# Altium schematic symbol library MMCX-J-P-H-ST.SchLib: 1 symbol
Pins are listed as number, name and electrical type; pins without a type are passive.

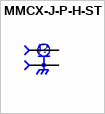
[diagram p0: symbol MMCX-J-P-H-ST]

## MMCX-J-P-H-ST
designator J?
MMCX STRAIGHT- 50 OHM
pins: 1, 2